# Altium schematic symbol library PCB_Project.SCHLIB: 17 symbols
Pins are listed as number, name and electrical type; pins without a type are passive.

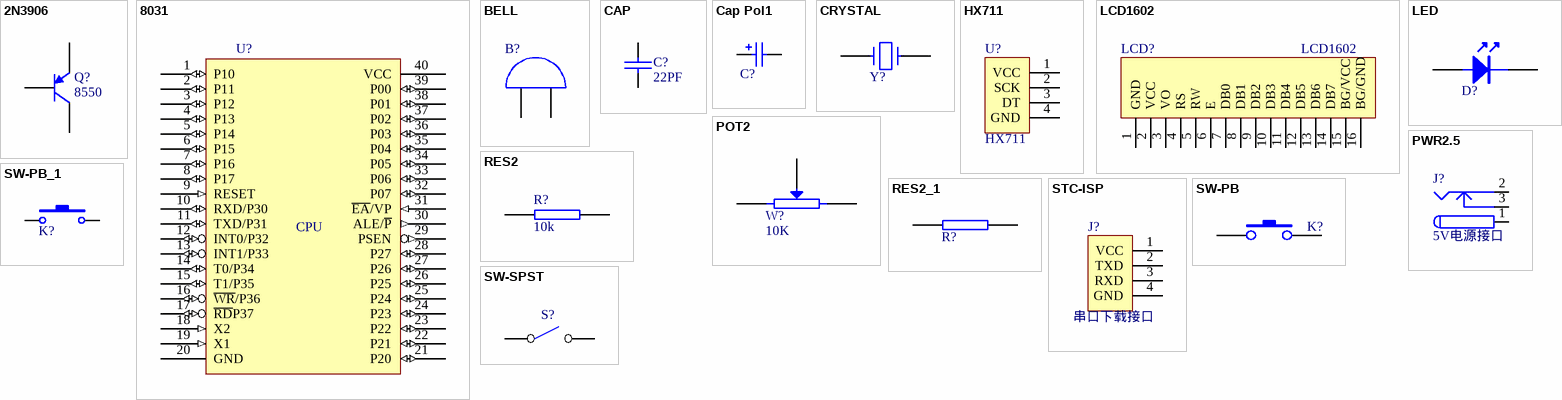
[diagram p0: symbols 2N3906 to SW-SPST]

## 2N3906
designator Q?, comment 8550
PNP General Purpose Amplifier; Published: *; LatestRevisionDate: *; LatestRevisionNote: *; DatasheetVersion: *; PackageVersion: *; PackageReference: *; Publisher: *; PackageDescription: *; ComponentLink1Description: *; ComponentLink1URL: *; ComponentLink2Description: *; ComponentLink2URL: *
footprint TO-92-2N3906
footprint S8550NEW
pins: 1 E, 2 B, 3 C
2 alternate drawings of the same symbol

## 8031
designator U?, comment CPU
footprint DIP-40
footprint DIP40
pins: 1 P10 (io), 2 P11 (io), 3 P12 (io), 4 P13 (io), 5 P14 (io), 6 P15 (io), 7 P16 (io), 8 P17 (io), 9 RESET (in), 10 RXD/P30 (io), 11 TXD/P31 (io), 12 INT0/P32 (io), 13 INT1/P33 (io), 14 T0/P34 (io), 15 T1/P35 (io), 16 ~{WR}/P36 (io), 17 ~{RD}P37 (io), 18 X2 (in), 19 X1 (in), 20 GND (power), 21 P20 (io), 22 P21 (io), 23 P22 (io), 24 P23 (io), 25 P24 (io), 26 P25 (io), 27 P26 (io), 28 P27 (io), 29 PSEN (out), 30 ALE/~{P} (out), 31 ~{EA}/VP (in), 32 P07 (io), 33 P06 (io), 34 P05 (io), 35 P04 (io), 36 P03 (io), 37 P02 (io), 38 P01 (io), 39 P00 (io), 40 VCC (power)

## BELL
designator B?
Bell
footprint CYCFENGLINGQI
pins: 1 A, 2 B

## CAP
designator C?, comment 22PF
Capacitor
footprint CYC100MIL
pins: 1, 2

## Cap Pol1
designator C?, comment 10uF  (value not drawn)
Polarized Capacitor (Radial); Published: 8-Jun-2000; LatestRevisionDate: 17-Jul-2002; LatestRevisionNote: Re-released for DXP Platform.; PackageReference: RB7.6-15; Publisher: Altium Limited
footprint C_10
footprint CYC DIANRONG10UF
pins: 1, 2
2 alternate drawings of the same symbol

## CRYSTAL
designator Y?  (value not drawn)
footprint JINGZ
pins: 1, 2

## HX711
designator U?
pins: 1 VCC, 2 SCK, 3 DT, 4 GND

## LCD1602
designator LCD?
footprint 1602
footprint LCD1602
pins: 1 GND, 2 VCC, 3 VO, 4 RS, 5 RW, 6 E, 7 DB0, 8 DB1, 9 DB2, 10 DB3, 11 DB4, 12 DB5, 13 DB6, 14 DB7, 15 BG/VCC, 16 BG/GND
2 alternate drawings of the same symbol

## LED
designator D?  (value not drawn)
footprint CYC 3MM LED
pins: A 1, K 2

## POT2
designator W?, comment 10K
Potentiometer
footprint CYC 3 DIANWEIQI
pins: 1, 2, 3 W

## PWR2.5
designator J?, comment 5V电源接口
Low Voltage Power Supply Connector; Published: *; DatasheetDocument: *; Publisher: *; ComponentLink1Description: *; ComponentLink1URL: *
footprint DC-JACK
footprint NEW-DC-5V
pins: 1 (power), 2 (power), 3 (power)
2 alternate drawings of the same symbol

## RES2
designator R?, comment 10k
footprint CYC300MIL
pins: 1, 2

## RES2_1
designator R?, comment 1K  (value not drawn)
footprint CYC300MIL
pins: 1, 2

## STC-ISP
designator J?, comment 串口下载接口
pins: 1 VCC, 2 TXD, 3 RXD, 4 GND

## SW-PB
designator K?  (value not drawn)
footprint WKAI
pins: 1, 2

## SW-PB_1
designator K?, comment SW-PB  (value not drawn)
Switch; Published: 24-Mar-1999; LatestRevisionDate: 17-Jul-2002; LatestRevisionNote: Re-released for DXP Platform.; PackageReference: SPST-2; Publisher: Altium Limited
footprint key
footprint WKAI
pins: 1, 2
2 alternate drawings of the same symbol

## SW-SPST
designator S?  (value not drawn)
footprint CYCKAIGUAN
pins: 1, 2